# Altium footprint library uUSBconn.PcbLib: 1 footprints
Each footprint in its own frame and in the unit in brackets; x right, y up, seen from the top. Pads: shape width x height; smd on the part's side, far side on the other; paste and mask are expansions set on the pad; w line width, h text height; cw(c..) or ccw(c..) is an arc to the next point about the centre after c.
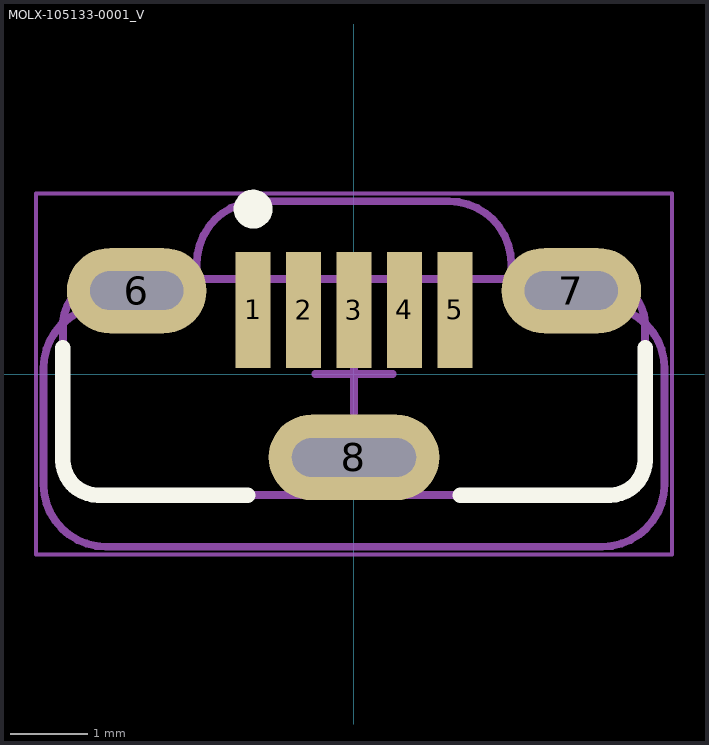
[diagram p0: the footprint, top view; thin cyan lines are the x and y axes]

## MOLX-105133-0001_V [mm] "Micro USB B, 5-Leads, Pitch 0.65mm"
height 7.513
pads (8):
  rect 0.45x1.5 smd: 1(-1.3,0.825) 2(-0.65,0.825) 3(0,0.825) 4(0.65,0.825) 5(1.3,0.825)
  oval 1.8x1.1 hole 0.5 slot 1.2 at 0 deg: 6(-2.8,1.075) 7(2.8,1.075)
  oval 2.2x1.1 hole 0.5 slot 1.6 at 0 deg: 8(0,-1.075)
Top Overlay:
  circle w0.25: c-1.3,2.125 r0.125
  lines w0.2: -3.75,0.338 -3.75,-1.11 ccw(c-3.3,-1.11) -3.3,-1.56 -1.367,-1.56 ; 1.367,-1.56 3.3,-1.56 ccw(c3.3,-1.11) 3.75,-1.11 3.75,0.338
Mechanical 13:
  lines w0.1: -4,-1.425 ccw(c-3.2,-1.425) -3.2,-2.225 3.2,-2.225 ccw(c3.2,-1.425) 4,-1.425 4,0.075 ccw(c3.2,0.075) 3.2,0.875 2.025,0.875 2.025,1.425 ccw(c1.225,1.425) 1.225,2.225 -1.225,2.225 ccw(c-1.225,1.425) -2.025,1.425 -2.025,0.875 -3.2,0.875 ccw(c-3.2,0.075) -4,0.075 -4,-1.425 ; -3.75,-1.11 ccw(c-3.3,-1.11) -3.3,-1.56 3.3,-1.56 ccw(c3.3,-1.11) 3.75,-1.11 3.75,0.565 ccw(c3.145,0.62) 3.2,1.225 -3.2,1.225 ccw(c-3.145,0.62) -3.75,0.565 -3.75,-1.11
Mechanical 15:
  lines w0.05: -4.1,-2.325 4.1,-2.325 4.1,2.325 -4.1,2.325 -4.1,-2.325
  lines w0.1: -0.5,0 0.5,0 ; 0,-0.5 0,0.5
3D body "1051330001.stp": height 7.51, standoff -2.29, extent -4.025,-2.225 4,2.225